# EAGLE library part LIS331DLH (library LIS331DLH)
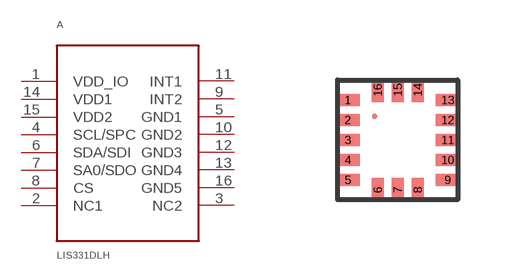
[diagram p0: symbol with the pads of LGA16-3X3; footprint LGA16-3X3]

Designator prefix A

## LIS331DLH  [LGA16-3X3]
1  VDD_IO  pwr
2  NC1  nc
3  NC2  nc
4  SCL/SPC
5  GND1  pwr
6  SDA/SDI
7  SA0/SDO
8  CS
9  INT2
10  GND2  pwr
11  INT1
12  GND3
13  GND4
14  VDD1
15  VDD2
16  GND5

## Footprint LGA16-3X3 (pad centres in mm)
smd 0.61 x 0.305: 1 -1.25,1; 2 -1.25,0.5; 3 -1.25,0; 4 -1.25,-0.5; 5 -1.25,-1; 9 1.25,-1; 10 1.25,-0.5; 11 1.25,0; 12 1.25,0.5; 13 1.25,1
smd 0.305 x 0.61: 6 -0.5,-1.25; 7 0,-1.25; 8 0.5,-1.25; 14 0.5,1.25; 15 0,1.25; 16 -0.5,1.25